# Altium footprint library CMS04.PcbLib: 1 footprints
Each footprint in its own frame and in the unit in brackets; x right, y up, seen from the top. Pads: shape width x height; smd on the part's side, far side on the other; paste and mask are expansions set on the pad; w line width, h text height; cw(c..) or ccw(c..) is an arc to the next point about the centre after c.
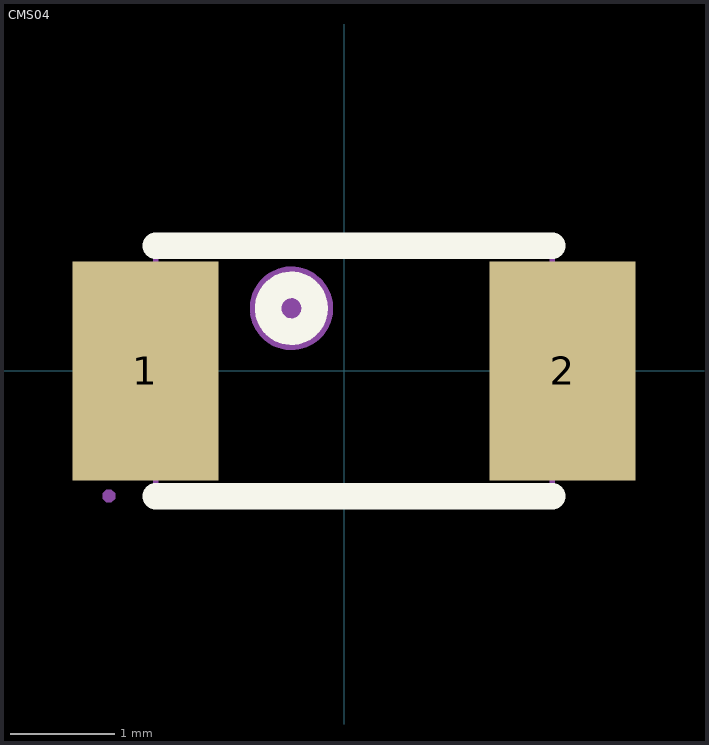
[diagram p0: the footprint, top view; thin cyan lines are the x and y axes]

## CMS04 [mm]
pads (2):
  rect 1.4x2.1 smd: 1(-1.905,0) 2(2.095,0)
Top Overlay:
  circle w0.254: c-0.505,0.6 r0.224
  lines w0.254: -1.805,-1.2 1.995,-1.2 ; -1.805,1.2 1.995,1.2
Mechanical 6:
  circle w0.4: c-0.505,0.6 r0.2
  region: -2.224,0.086 -1.556,0.086 -1.556,-0.055 -2.225,-0.055 -2.225,-0.017
  region: 2.068,-0.385 2.068,0.283 2.209,0.283 2.209,-0.386 2.171,-0.386
  region: 1.804,0.068 2.472,0.068 2.472,-0.073 1.803,-0.073 1.803,-0.035
Mechanical 15:
  region: 1.745,0.875 2.445,0.875 2.445,-0.875 1.745,-0.875
  region: -2.255,0.875 -1.555,0.875 -1.555,-0.875 -2.255,-0.875
  region: -2.195,-1.2 -2.195,-1.225 -2.23,-1.26 -2.28,-1.26 -2.315,-1.225 -2.315,-1.2 -2.315,-1.175 -2.28,-1.14 -2.23,-1.14 -2.195,-1.175 -2.195,-1.2
  lines w0.051: -1.805,-1.2 1.995,-1.2 1.995,1.2 -1.805,1.2 -1.805,-1.2